# Altium footprint library Motor.PcbLib: 23 footprints (part 2 of 2)
Each footprint in its own frame and in the unit in brackets; x right, y up, seen from the top. Pads: shape width x height; smd on the part's side, far side on the other; paste and mask are expansions set on the pad; w line width, h text height; cw(c..) or ccw(c..) is an arc to the next point about the centre after c.
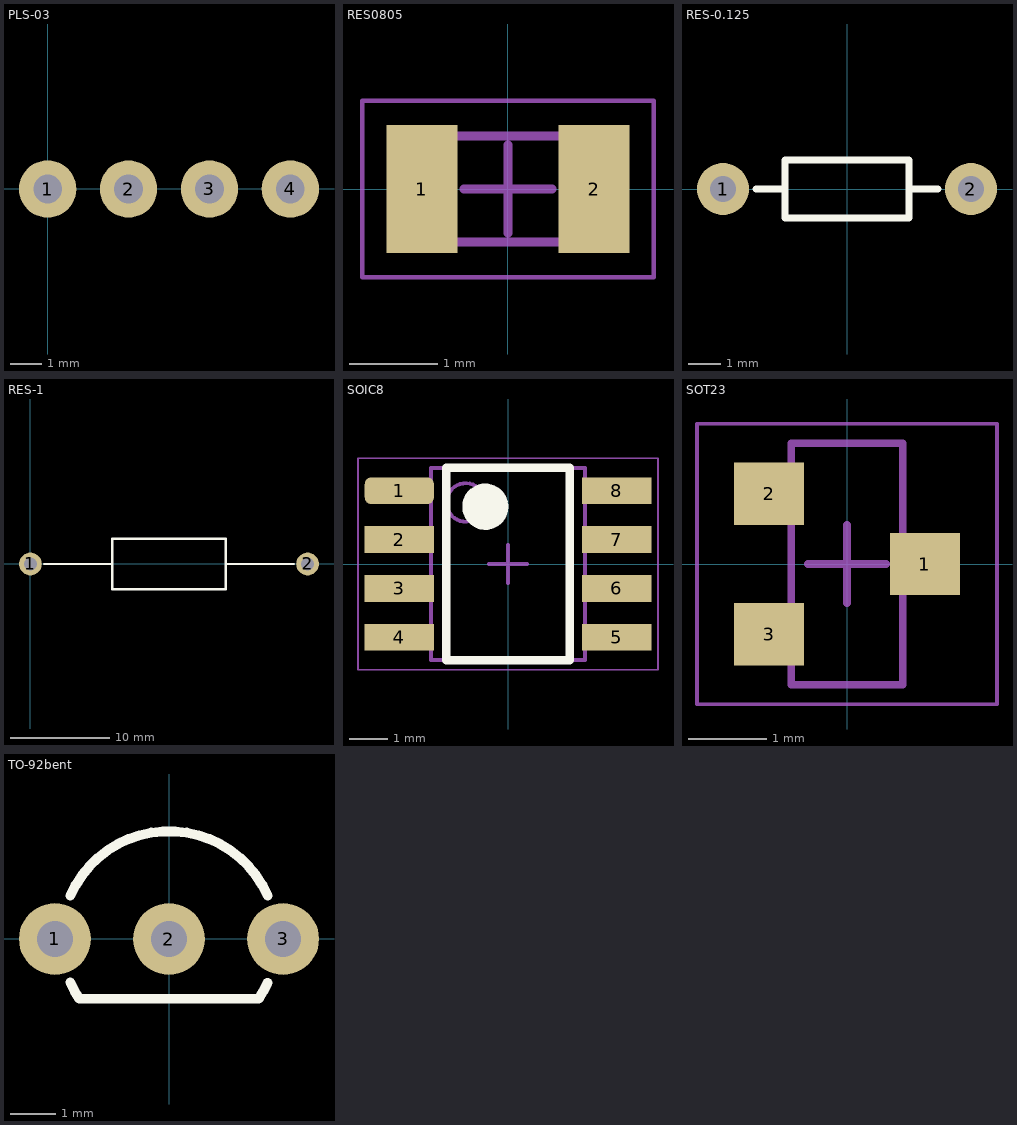
[diagram p1: the footprints below, top view; thin cyan lines are the x and y axes]

## PLS-03 [mm]
pads (4):
  round 1.8 hole 0.9: 1(0,0) 2(2.54,0) 3(5.08,0) 4(7.62,0)
3D body: height 1.5, standoff 0, extent 6.35,-1.27 8.89,1.27
3D body: height 1.5, standoff 0, extent 3.81,-1.27 6.35,1.27
3D body: height 8.5, standoff 0, extent 7.239,-0.381 8.001,0.381
3D body: height 8.5, standoff 0, extent -0.381,-0.381 0.381,0.381
3D body: height 8.5, standoff 0, extent 2.159,-0.381 2.921,0.381
3D body: height 8.5, standoff 0, extent 4.699,-0.381 5.461,0.381
3D body: height 1.5, standoff 0, extent -1.27,-1.27 1.27,1.27
3D body: height 1.5, standoff 0, extent 1.27,-1.27 3.81,1.27

## RES0805 [mm] "Chip Resistor, 2-Leads, Body 2,00x1,20mm, IPC Medium Density"
height 0.4
pads (2):
  rect 0.8x1.45 smd: 1(-0.975,0) 2(0.975,0)
Mechanical 13:
  lines w0.1: -1,-0.6 1,-0.6 1,0.6 -1,0.6 -1,-0.6
Mechanical 15:
  lines w0.05: -1.65,-1 1.65,-1 1.65,1 -1.65,1 -1.65,-1
  lines w0.1: -0.5,0 0.5,0 ; 0,-0.5 0,0.5
3D body: height 0.4, standoff 0, extent 0.6,-0.6 1,0.6
3D body: height 0.4, standoff 0, extent -1,-0.6 -0.6,0.6
3D body: height 0.4, standoff 0, extent -0.6,-0.6 0.6,0.6

## RES-0.125 [mm]
pads (2):
  round 1.6 hole 0.8: 1(-3.81,0) 2(3.81,0)
Top Overlay:
  lines w0.22: -2.794,0 -1.905,0 ; 1.905,0 2.794,0 ; -1.905,-0.889 -1.905,0.889 1.905,0.889 1.905,-0.889 -1.905,-0.889
3D body "CircuitWorks-RESISTOR 7_62MM DIP.step": height 2.3, standoff -1.7, extent -4.05,-1 4.05,1

## RES-1 [mm]
pads (2):
  round 2.3 hole 1.3: 1(0,0) 2(27.94,0)
Top Overlay:
  lines w0.22: 1.397,0 3.175,0 8.255,0 ; 19.685,0 26.543,0 ; 8.255,-2.54 8.255,-1.905 8.255,1.905 8.255,2.54 19.685,2.54 19.685,1.905 19.685,-1.905 19.685,-2.54 19.05,-2.54 8.255,-2.54
3D body "User Library-Res110 1W SilCoat.step": height 4.52, standoff -2, extent -0.381,-2.25 28.309,2.25

## SOIC8 [mm] "SOIC, 8-Leads, Body 4,90x3,90mm, Pitch 1,27mm, IPC Medium Density"
height 1.75
pads (8):
  rrect50% 1.8x0.7 smd: 1(-2.825,1.905)
  rect 1.8x0.7 smd: 2(-2.825,0.635) 3(-2.825,-0.635) 4(-2.825,-1.905) 5(2.825,-1.905) 6(2.825,-0.635) 7(2.825,0.635) 8(2.825,1.905)
Top Overlay:
  circle w0.6: c-0.59,1.49 r0.3
  lines w0.22: -1.6,-2.5 1.6,-2.5 1.6,2.5 -1.6,2.5 -1.6,-2.5
Mechanical 13:
  circle w0.1: c-1.1,1.6 r0.5
  lines w0.1: -2,-2.5 2,-2.5 2,2.5 -2,2.5 -2,-2.5
Mechanical 15:
  lines w0.05: -3.9,-2.75 3.9,-2.75 3.9,2.75 -3.9,2.75 -3.9,-2.75
  lines w0.1: -0.5,0 0.5,0 ; 0,-0.5 0,0.5
3D body "SOIC8.step": height 1.75, standoff 0, extent -3,-2.5 3,2.5

## SOT23 [mm]
height 1.15
pads (3):
  rect 0.9x0.8 smd: 1(1,0) 2(-1,0.9) 3(-1,-0.9)
Mechanical 13:
  lines w0.1: -0.715,-1.55 -0.715,1.55 0.715,1.55 0.715,-1.55 -0.715,-1.55
Mechanical 15:
  lines w0.05: -1.925,-1.8 -1.925,1.8 1.925,1.8 1.925,-1.8 -1.925,-1.8
  lines w0.1: -0.5,0 0.5,0 ; 0,-0.5 0,0.5
3D body "SOT23127P600-8N.step": height 1.15, standoff 0, extent -1.3,-1.55 1.3,1.55

## TO-92bent [mm]
pads (3):
  round 1.6 hole 0.8: 1(-2.54,0) 2(0,0) 3(2.54,0)
Top Overlay:
  lines w0.22: -2.199,-0.962 ccw(c0,0) -1.997,-1.331 1.997,-1.331 ccw(c0,0) 2.193,-0.975 ; -2.199,0.962 cw(c0,0) 2.199,0.962
3D body "User Library-TO-92_Bent.STEP": height 11, standoff -2, extent -2.79,-1.59 2.79,2.613